# Altium integrated library GCM21BR71H104KA37K.IntLib: 1 symbol
Pins are listed as number, name and electrical type; pins without a type are passive.

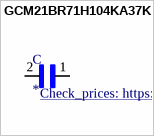
[diagram p0: symbol GCM21BR71H104KA37K]

## GCM21BR71H104KA37K
designator C
SMD Capacitor X7R(EIA) with Capacitance: 0.10uF Tol. 10%. Rated Voltage: 50Vdc; MP: GCM21BR71H104KA37K; MF: Murata; SnapEDA_Link: https://www.snapeda.com/parts/GCM21BR71H104KA37K/Murata%20Electronics%20North%20America/view-part/1764792/?ref=snap; Value: *; Price: None; Arrow_Electronics-Purchase-URL: https://snapeda.com/shop?store=Arrow+Electronics&id=1764792; Availability: Good; Package: 0805 Murata; DigiKey-Purchase-URL: https://snapeda.com/shop?store=DigiKey&id=1764792; Check_prices: https://www.snapeda.com/parts/GCM21BR71H104KA37K/Murata%20Electronics%20North%20America/view-part/1764792/?ref=eda
footprint CAPC2012X135N
pins: 1, 2